# Altium integrated library LPEDT_proj_lib.IntLib: 85 symbols (part 3 of 3)
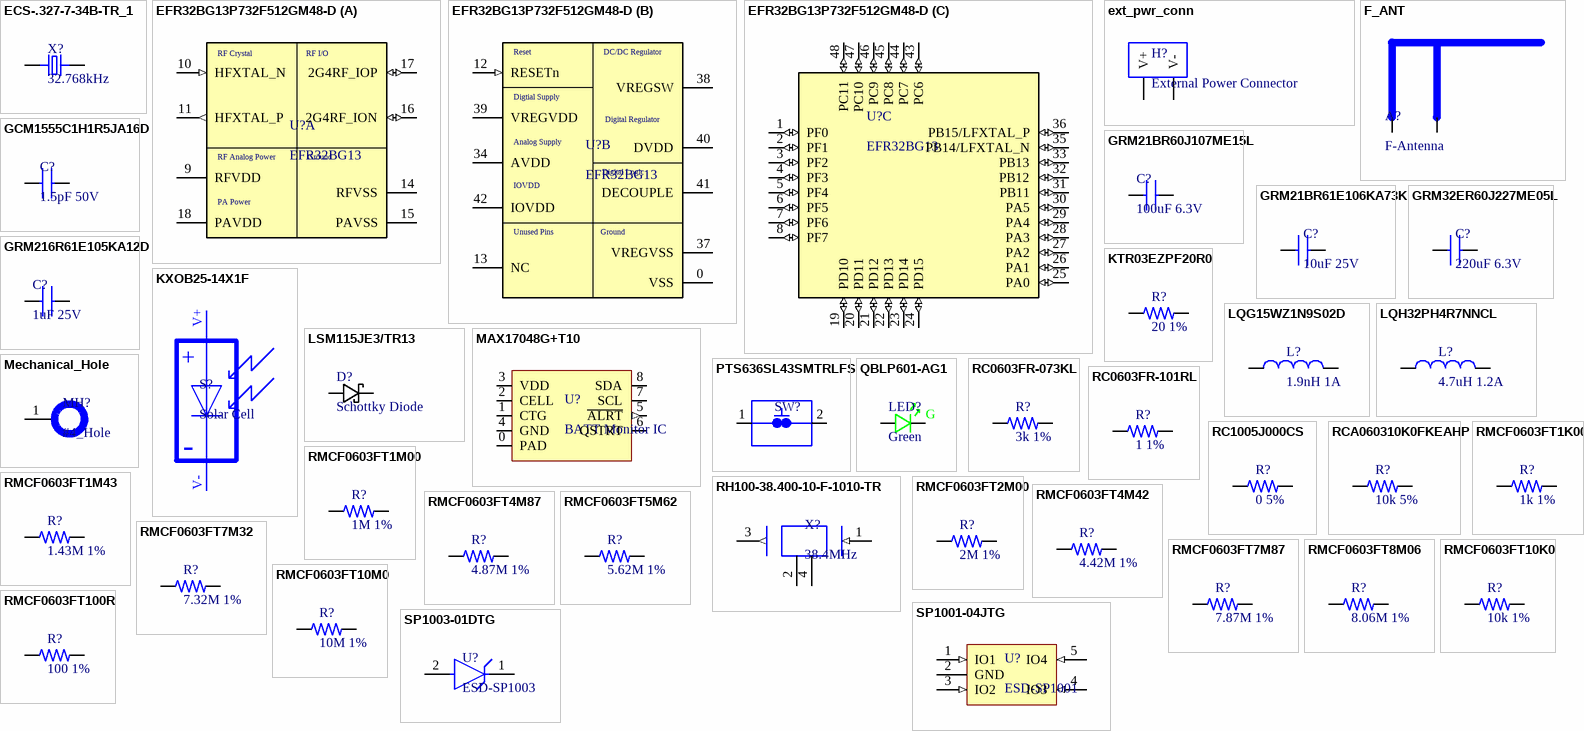
[diagram p4: symbols ECS-.327-7-34B-TR_1 to SP1003-01DTG]

## SP1001-04JTG
designator U?, comment ESD-SP1001
TVS DIODE 5.5VWM 13VC SC70-5; Manufacturer: Littelfuse; Manufacturer Part Number: SP1001-04JTG; Direction: Unidirectional; Capacitance: 8pF; Operating Supply Voltage: 5.5V; Max Surge Current: 2A; Number of Channels: 4; Clamping Voltage: 9.7V; Min Breakdown Voltage: 7V; Power Line Protection: No; Leakage Current: 500nA; Diode Type: ZENER; Clamping Voltage-Max: 13V; Supplier 1: Digi-Key; RoHS: Yes; Category: TVS Diodes; Stock 1: 62579; Pricing 1: 1=0.61000, 10=0.52000, 100=0.38810, 500=0.30492, 1000=0.23562 (USD); Mount: Surface Mount; Case/Package: SC; Number of Pins: 5; Min Operating Temperature: -40°C; Max Operating Temperature: 85°C; Packaging: Tape and Reel; Package Quantity: 3000; Polarity: Unidirectional; Breakdown Voltage: 5.5V; Termination: SMD/SMT; Number of Unidirectional Channels: 4; Reverse Standoff Voltage: 5.5V; Working Voltage: 5.5V; Peak Pulse Current: 2A; Resistor Type: Zener; Series: Automotive, AEC-Q101, SP1001, SPA®; Length: 2.25mm; Depth: 1.35mm; Radiation Hardening: No; REACH SVHC: Unknown; Lead Free: Lead Free; RoHS Compliant: Yes; ComponentLink1URL: https://datasheet.ciiva.com/4510/littelfuse-spa-sp1001-0x-63620-4510770.pdf?src-supplier=Mouser; ComponentLink1Description: https://datasheet.ciiva.com/4510/littelfuse-spa-sp1001-0x-63620-4510770.pdf?src-supplier=Mouser; ComponentLink2URL: https://datasheet.ciiva.com/1268/littelfuse-spa-sp1001-0x-1268334.pdf?src-supplier=Element14; ComponentLink2Description: https://datasheet.ciiva.com/1268/littelfuse-spa-sp1001-0x-1268334.pdf?src-supplier=Element14; ComponentLink3URL: https://datasheet.ciiva.com/331/littelfuse-tvs-diode-array-sp1001-datasheet-pdf-331765.pdf?src-supplier=Digi-Key; ComponentLink3Description: https://datasheet.ciiva.com/331/littelfuse-tvs-diode-array-sp1001-datasheet-pdf-331765.pdf?src-supplier=Digi-Key; ComponentLink4URL: https://datasheet.ciiva.com/331/littelfuse-tvs-diode-array-sp1001-datasheet-pdf-331766.pdf?src-supplier=Digi-Key; ComponentLink4Description: https://datasheet.ciiva.com/331/littelfuse-tvs-diode-array-sp1001-datasheet-pdf-331766.pdf?src-supplier=Digi-Key; ComponentLink5URL: https://datasheet.ciiva.com/331/littelfuse-tvs-diode-array-sp1001-datasheet-pdf-331764.pdf?src-supplier=Digi-Key; ComponentLink5Description: https://datasheet.ciiva.com/331/littelfuse-tvs-diode-array-sp1001-datasheet-pdf-331764.pdf?src-supplier=Digi-Key
footprint SOT65P210X110-5N
pins: 1 IO1 (in), 2 GND (power), 3 IO2 (in), 4 IO3 (in), 5 IO4 (in)

## SP1003-01DTG
designator U?, comment ESD-SP1003
TVS DIODE 5VWM 12VC SOD723; Manufacturer: Littelfuse; Manufacturer Part Number: SP1003-01DTG; Direction: Unidirectional; Reverse Breakdown Voltage: 6V; Operating Supply Voltage: 5V; Capacitance: 30pF; Max Surge Current: 7A; Number of Channels: 1; Clamping Voltage: 12V; Power Line Protection: No; Polarity: Bidirectional,Unidirectional; Test Current: 1mA; Leakage Current: 100nA; Diode Type: ZENER; Clamping Voltage-Max: 12.5V; Supplier 1: Digi-Key; RoHS: Yes; Category: TVS Diodes; Stock 1: 163275; Pricing 1: 1=0.57000, 10=0.46200, 100=0.31430, 500=0.23576, 1000=0.17681, 2000=0.16208 (USD); Mount: Surface Mount; Number of Pins: 2; Min Operating Temperature: -40°C; Max Operating Temperature: 85°C; Packaging: Tape and Reel; Package Quantity: 8000; Number of Unidirectional Channels: 1; Reverse Standoff Voltage: 5V; Min Breakdown Voltage: 6V; Breakdown Voltage: 5V; Termination: SMD/SMT; Number of Elements: 1; Peak Pulse Current: 7A; Resistor Type: Zener; Series: SP1003, SPA®; REACH SVHC: No SVHC; Lead Free: Lead Free; RoHS Compliant: Yes; ComponentLink1URL: https://datasheet.ciiva.com/8062/littelfuse-spa-sp1003-series-8062432.pdf?src-supplier=Element14; ComponentLink1Description: https://datasheet.ciiva.com/8062/littelfuse-spa-sp1003-series-8062432.pdf?src-supplier=Element14; ComponentLink2URL: https://datasheet.ciiva.com/5771/littelfuse-spa-sp1003-series-5771141.pdf?src-supplier=Farnell; ComponentLink2Description: https://datasheet.ciiva.com/5771/littelfuse-spa-sp1003-series-5771141.pdf?src-supplier=Farnell; ComponentLink3URL: https://datasheet.ciiva.com/330/littelfuse-tvs-diode-array-sp1003-datasheet-pdf-330692.pdf?src-supplier=Digi-Key; ComponentLink3Description: https://datasheet.ciiva.com/330/littelfuse-tvs-diode-array-sp1003-datasheet-pdf-330692.pdf?src-supplier=Digi-Key; ComponentLink4URL: https://datasheet.ciiva.com/330/littelfuse-tvs-diode-array-sp1003-datasheet-pdf-330693.pdf?src-supplier=Digi-Key; ComponentLink4Description: https://datasheet.ciiva.com/330/littelfuse-tvs-diode-array-sp1003-datasheet-pdf-330693.pdf?src-supplier=Digi-Key; ComponentLink5URL: https://datasheet.ciiva.com/330/littelfuse-tvs-diode-array-sp1003-datasheet-pdf-330691.pdf?src-supplier=Digi-Key; ComponentLink5Description: https://datasheet.ciiva.com/330/littelfuse-tvs-diode-array-sp1003-datasheet-pdf-330691.pdf?src-supplier=Digi-Key; ComponentLink6URL: https://datasheet.ciiva.com/16216/littelfuse-spa-sp1003-series-16216345.pdf?src-supplier=Future+Electronics; ComponentLink6Description: https://datasheet.ciiva.com/16216/littelfuse-spa-sp1003-series-16216345.pdf?src-supplier=Future+Electronics
footprint Littelfuse_Inc_SP1003_MFG
pins: 1 C, 2 A

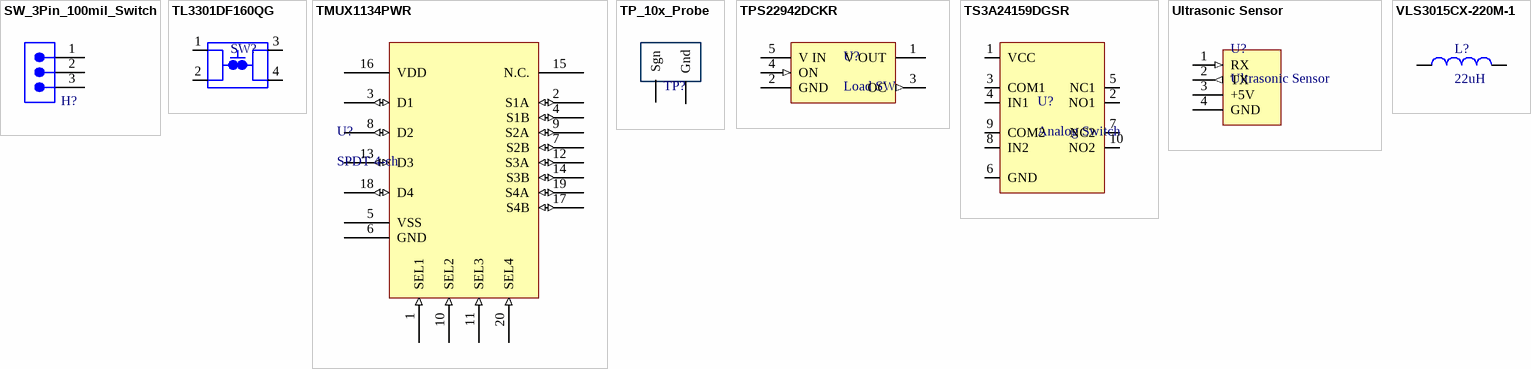
[diagram p2: symbols SW_3Pin_100mil_Switch to VLS3015CX-220M-1]

## SW_3Pin_100mil_Switch
designator H?, comment PREC003SAAN-RC  (value not drawn)
Connector Header Through Hole 3 position 0.100" (2.54mm); Value: CONN HEADER VERT 3POS 2.54MM; Digikey Link: https://www.digikey.com/product-detail/en/PREC003SAAN-RC/S1012EC-03-ND/2774851/?itemSeq=304982371; Digikey Part: S1012EC-03-ND; Type: Extended; LCSC Part#: C429954
footprint 3_PIN_100mil
pins: 1, 2, 3

## TL3301DF160QG
designator SW?
Tactile Switch SPST-NO Top Actuated Surface Mount; MP: TL3301DF160QG; MF: E-Switch; Price: None; Availability: Unavailable; Package: None; Value: *; SnapEDA_Link: https://www.snapeda.com/parts/TL3301DF160QG/E-Switch/view-part/169822/?ref=snap
footprint SW_TL3301DF160QG
pins: 1, 2, 3, 4

## TMUX1134PWR
designator U?, comment SPDT 4-ch
3-pA on-state leakage current, 2: 1 (SPDT), 4-channel precision analog switch 20-TSSOP -40 to 125; Manufacturer: Texas Instruments; Manufacturer Part Number: TMUX1134PWR; Supplier 1: Digi-Key; RoHS: Yes; Category: Interface ICs; Stock 1: 60; Pricing 1: 1=3.33000, 10=2.99500, 25=2.83080, 100=2.45350, 250=2.32772, 500=2.08864, 1000=2.07725 (USD); RoHS Compliant: Yes
footprint TSOP65P640X120-20N (TSOP, 20-Leads, Body 6.50x4.40mm, Pitch 0.65mm, IPC Medium Density)
pins: 1 SEL1 (in) "Logic control select pin 1. Controls switch 1 connection as shown in Table 2.", 2 S1A (io) "Source pin 1A. Can be an input or output.", 3 D1 (io) "Drain pin 1. Can be an input or output.", 4 S1B (io) "Source pin 1B. Can be an input or output.", 5 VSS (power) "Negative power supply. This pin is the most negative power-supply potential. For reliable operation, connect a decoupling capacitor ranging from 0.1 μF to 10 μF between VSS and GND. VSS must be connected to ground for single supply voltage applications.", 6 GND (power) ".Ground (0 V) reference.", 7 S2B (io) "Source pin 2B. Can be an input or output.", 8 D2 (io) "Drain pin 2. Can be an input or output.", 9 S2A (io) "Source pin 2A. Can be an input or output.", 10 SEL2 (in) "Logic control select pin 2. Controls switch 2 connection as shown in Table 2.", 11 SEL3 (in) "Logic control select pin 3. Controls switch 3 connection as shown in Table 2.", 12 S3A (io) "Source pin 3A. Can be an input or output.", 13 D3 (io) "Drain pin 3. Can be an input or output.", 14 S3B (io) "Source pin 3B. Can be an input or output.", 15 N.C. "Not Connected. Can be shorted to GND or left floating.", 16 VDD (power) "Positive power supply. This pin is the most positive power-supply potential. For reliable operation, connect a decoupling capacitor ranging from 0.1 μF to 10 μF between VDD and GND.", 17 S4B (io) "Source pin 4B. Can be an input or output.", 18 D4 (io) "Drain pin 4. Can be an input or output.", 19 S4A (io) "Source pin 4A. Can be an input or output.", 20 SEL4 (in) "Logic control select pin 4. Controls switch 4 connection as shown in Table 2."

## TP_10x_Probe
designator TP?, comment 10x Probe TP  (value not drawn)
Test Point 300 mil centers
footprint TP10x_Probe (Small Probs footprint)
pins: 1 Sgn, 2 Gnd

## TPS22942DCKR
designator U?, comment Load SW
5.5-V, 0.1-A, 500-mΩ, load switch with current limit and active low enable 5-SC70 -40 to 85; Manufacturer: Texas Instruments; Manufacturer Part Number: TPS22942DCKR; Number of Outputs: 1; Output Current: 200mA; Nominal Supply Current: 1uA; Max Output Current: 100mA; Max Supply Voltage: 5.5V; Min Supply Voltage: 1.62V; Interface: On/Off; On-State Resistance: 500mR; Turn-On Delay Time: 60us; Turn-Off Delay Time: 30us; Max Supply Current: 80uA; Max Power Dissipation: 1.22mW; Quiescent Current: 40uA; Fault Protection: Over Temperature; Output Configuration: High Side; Supplier 1: Digi-Key; RoHS: Yes; Category: Hot Swap Controllers; Stock 1: 1111; Pricing 1: 1=1.24000, 10=1.10700, 25=1.05080, 100=0.86310, 250=0.80676, 500=0.71296, 1000=0.61950 (USD); Case/Package: SC; Number of Pins: 5; Weight: 8.8E-05oz; Min Operating Temperature: -40°C; Max Operating Temperature: 85°C; Packaging: Tape and Reel; Number of Inputs: 1; Package Quantity: 3000; Max Input Voltage: 5.5V; Min Input Voltage: 1.62V; Termination: SMD/SMT; Min Current Limit: 100mA; Number of Channels: 1; Radiation Hardening: No; REACH SVHC: No SVHC; Lead Free: Lead Free; RoHS Compliant: Yes; ComponentLink1URL: https://datasheet.ciiva.com/1962/tps22945-1962436.pdf?src-supplier=Digi-Key; ComponentLink1Description: https://datasheet.ciiva.com/1962/tps22945-1962436.pdf?src-supplier=Digi-Key; ComponentLink2URL: https://datasheet.ciiva.com/15103/getdatasheetpartid-122296-15103873.pdf?src-supplier=Verical; ComponentLink2Description: https://datasheet.ciiva.com/15103/getdatasheetpartid-122296-15103873.pdf?src-supplier=Verical; ComponentLink3URL: https://datasheet.ciiva.com/1512/1840307-1512708.pdf?src-supplier=Element14; ComponentLink3Description: https://datasheet.ciiva.com/1512/1840307-1512708.pdf?src-supplier=Element14; ComponentLink4URL: https://datasheet.ciiva.com/1963/tps22942-1963503.pdf?src-supplier=Digi-Key; ComponentLink4Description: https://datasheet.ciiva.com/1963/tps22942-1963503.pdf?src-supplier=Digi-Key; ComponentLink5URL: https://datasheet.ciiva.com/1963/tps22942-1963502.pdf?src-supplier=Digi-Key; ComponentLink5Description: https://datasheet.ciiva.com/1963/tps22942-1963502.pdf?src-supplier=Digi-Key; ComponentLink6URL: https://datasheet.ciiva.com/3233/tps22945-3233582.pdf?src-supplier=Avnet; ComponentLink6Description: https://datasheet.ciiva.com/3233/tps22945-3233582.pdf?src-supplier=Avnet; ComponentLink7URL: https://datasheet.ciiva.com/26074/tps22945-26074375.pdf?src-supplier=Avnet+Europe; ComponentLink7Description: https://datasheet.ciiva.com/26074/tps22945-26074375.pdf?src-supplier=Avnet+Europe
footprint SOT65P210X110-5N
pins: 1 V OUT (power) "Switch Output. Place ceramic bypass capacitor(s) between this terminal and GND. See the Application Information section for more information.", 2 GND (power) "Ground", 3 OC (out) "Over current output flag: active LOW, open drain output that indicates an over current, supply under voltage, or over temperature state.", 4 ON (in) "Switch control input. Do not leave floating.", 5 V IN (power) "Switch Input. Place ceramic bypass capacitor(s) between this terminal and GND. See the Application Information section for more information."

## TS3A24159DGSR
designator U?, comment Analog Switch
SPDT, 2 Func, 2 Channel, PDSO10; Manufacturer: Texas Instruments; Manufacturer Part Number: TS3A24159DGSR; Package Body Material: Plastic; Number of Channels: 2; Off-state Isolation-Nom: 73dB; On-state Resistance Match-Nom: 20mR; On-state Resistance-Max (Ron): 450mR; Package Equivalence Code: TSSOP10,.19,20; Power Supplies: 1.8/3V; Signal Current-Max: 100mA; Supply Voltage-Max (Vsup): 1.95V; Supply Voltage-Min (Vsup): 1.65V; Supply Voltage-Nom (Vsup): 1.8V; Switching: BREAK-BEFORE-MAKEV; Switch-off Time-Max: 35ns; Switch-on Time-Max: 75ns; Qualification Status: Not Qualified; Supplier 1: Digikey; RoHS: Yes; Category: Interface ICs; Stock 1: 16494; Pricing 1: 1=1.3, 10=1.159, 25=1.1, 100=0.9036, 250=0.84472, 500=0.7465, 1000=0.58934 (USD); Package Code: TSSOP; Number of Pins: 10; Package Shape: Square; Terminal Finish: Nickel; Min Operating Temperature: -40°C; Max Operating Temperature: 85°C; JESD-609 Code: e4; Analog IC - Other Type: SPDT; JESD-30 Code: S-PDSO-G10; Moisture Sensitivity Level: 1; Number of Functions: 2; Package Style: SMALL OUTLINE, THIN PROFILE, SHRINK PITCHMeter; Peak Reflow Temperature (Cel): 260°C; Surface Mount: Yes; Terminal Form: Gull Wing; Terminal Position: DUAL; Length: 3mm; Width: 3mm; Height - Seated (Max): 1.1mm; Terminal Pitch: 0.5mm; Temperature Grade: INDUSTRIAL; Reach SVHC Compliant: Yes; RoHS Compliant: Yes; ComponentLink1URL: https://www.ti.com:443/lit/ds/symlink/ts3a24159.pdf?src-supplier=IHS+Markit; ComponentLink1Description: https://www.ti.com:443/lit/ds/symlink/ts3a24159.pdf?src-supplier=IHS+Markit; ComponentLink2URL: https://datasheet.ciiva.com/1671/ts3a24159-1671344.pdf?src-supplier=Digikey; ComponentLink2Description: https://datasheet.ciiva.com/1671/ts3a24159-1671344.pdf?src-supplier=Digikey; ComponentLink3URL: https://datasheet.ciiva.com/15127/getdatasheetpartid-225813-15127469.pdf?src-supplier=Verical; ComponentLink3Description: https://datasheet.ciiva.com/15127/getdatasheetpartid-225813-15127469.pdf?src-supplier=Verical; ComponentLink4URL: https://datasheet.ciiva.com/41461/001187304-da-01-en-ic-switch-dual-ts3a24159dgsr-msop-10-tid-41461680.pdf?src-supplier=Conrad; ComponentLink4Description: https://datasheet.ciiva.com/41461/001187304-da-01-en-ic-switch-dual-ts3a24159dgsr-msop-10-tid-41461680.pdf?src-supplier=Conrad; ComponentLink5URL: https://datasheet.ciiva.com/46411/1857382-46411531.pdf?src-supplier=Element14; ComponentLink5Description: https://datasheet.ciiva.com/46411/1857382-46411531.pdf?src-supplier=Element14; ComponentLink6URL: https://datasheet.ciiva.com/1671/ts3a24159-1671343.pdf?src-supplier=Digikey; ComponentLink6Description: https://datasheet.ciiva.com/1671/ts3a24159-1671343.pdf?src-supplier=Digikey; ComponentLink7URL: https://datasheet.ciiva.com/1671/ts3a24159-1671345.pdf?src-supplier=Digikey; ComponentLink7Description: https://datasheet.ciiva.com/1671/ts3a24159-1671345.pdf?src-supplier=Digikey
footprint TSSOP50P490X110-10N (TSS3A24159_Analog_Switch TSSOP, 10-Leads, Body 3.00x3.00mm, Pitch 0.50mm, IPC Medium Density)
pins: 1 VCC (power), 2 NO1, 3 COM1, 4 IN1, 5 NC1, 6 GND (power), 7 NC2, 8 IN2, 9 COM2, 10 NO2

## Ultrasonic Sensor
designator U?
footprint 4_PIN_ultrasonic_sensor
pins: 1 RX (in), 2 TX (out), 3 +5V (power), 4 GND (power)

## VLS3015CX-220M-1
designator L?, comment 22uH
Inductor Power Shielded Wirewound 22uH 20% 1MHz Ferrite 0.87A 0.496Ohm DCR 1212 T/R; Manufacturer: TDK; Manufacturer Part Number: VLS3015CX-220M-1; Supplier 1: Digi-Key; RoHS: Yes; Category: Fixed Inductors; Stock 1: 1791; Pricing 1: 1=0.40000, 10=0.35400, 25=0.30960, 50=0.26540, 100=0.24320, 250=0.22112, 500=0.20784, 1000=0.15919 (USD); RoHS Compliant: Yes
footprint 2_IND_3x3 (Precision Wire Wound Inductor, 2-Leads, Body 3.00x3.00mm, IPC Medium Density)
pins: 1, 2